# Altium footprint library WS-DISV.PcbLib: 32 footprints (part 2 of 2)
Each footprint in its own frame and in the unit in brackets; x right, y up, seen from the top. Pads: shape width x height; smd on the part's side, far side on the other; paste and mask are expansions set on the pad; w line width, h text height; cw(c..) or ccw(c..) is an arc to the next point about the centre after c.
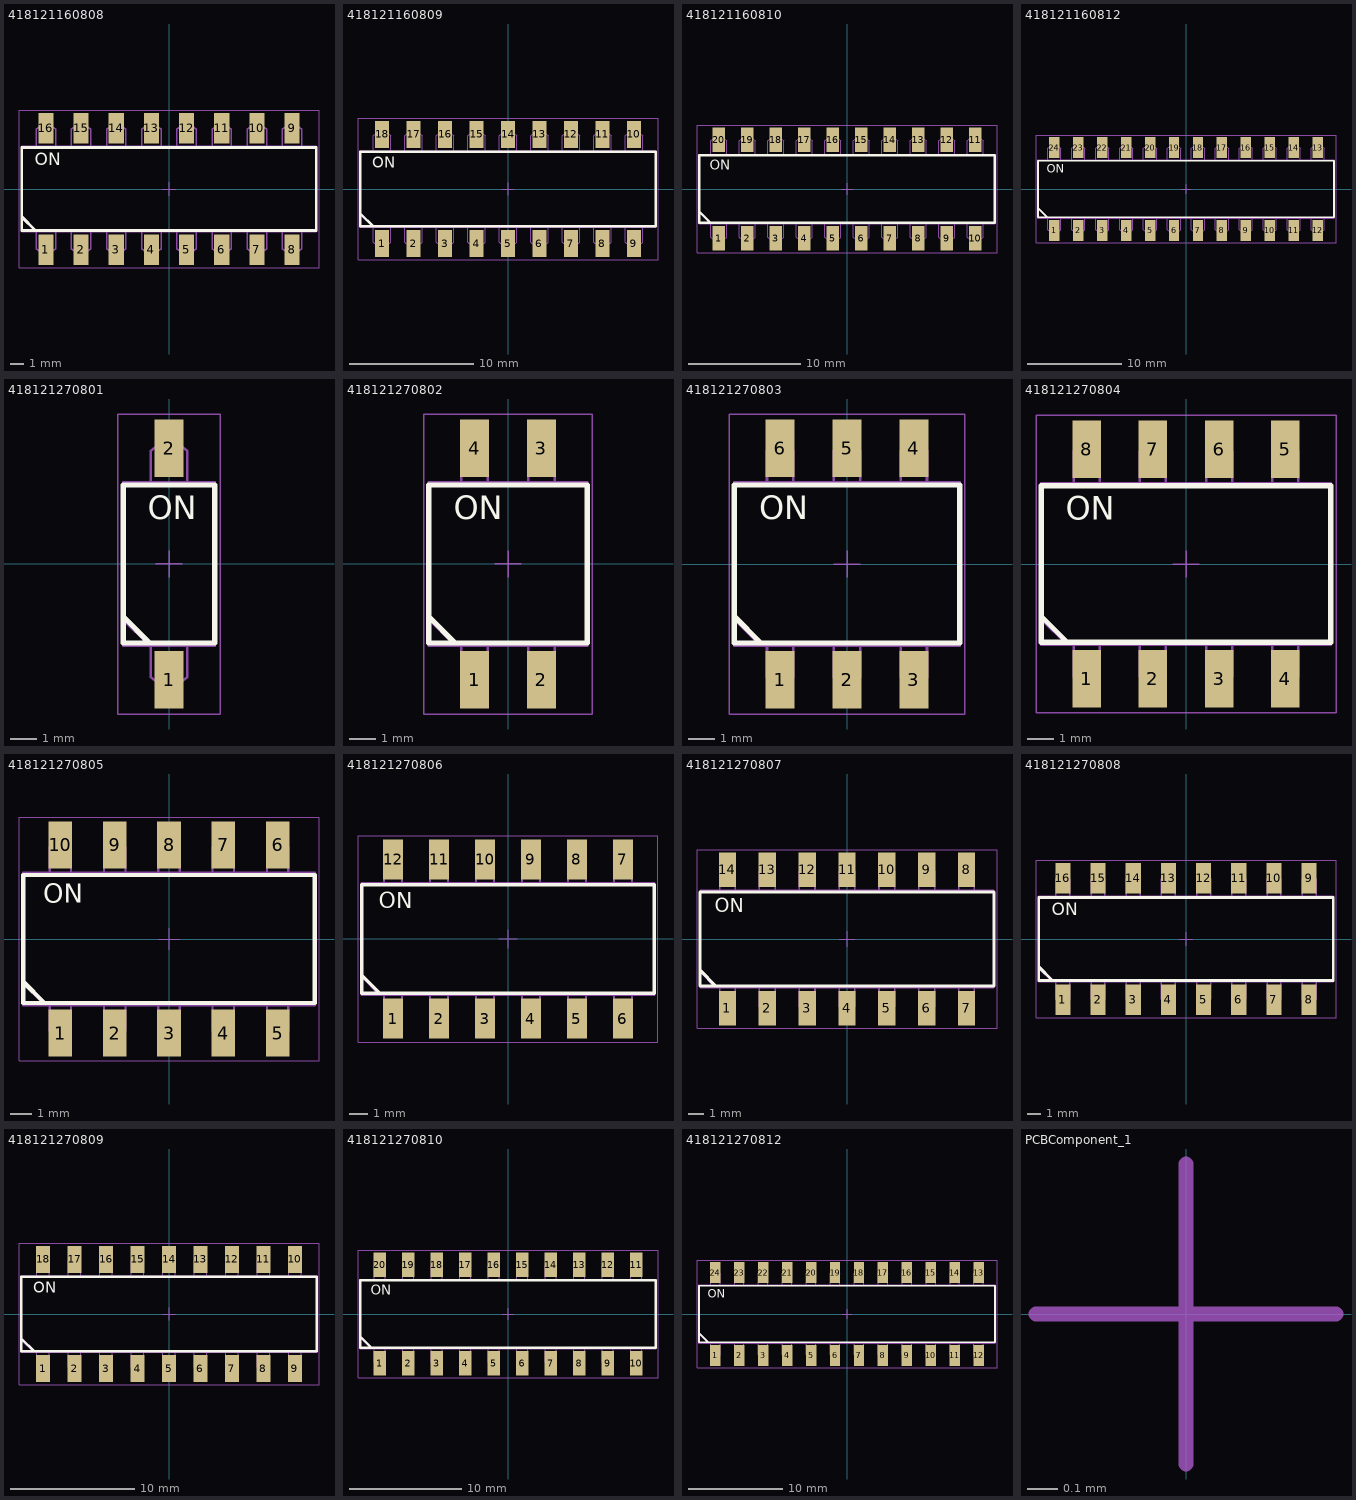
[diagram p1: the footprints below, top view; thin cyan lines are the x and y axes]

## 418121160808 [mm] "2.54 mm small compact SMD flat actuator with top tape, 08p"
height 3.2
pads (16):
  rect 1.1x2.2 smd: 1(-8.89,-4.4) 2(-6.35,-4.4) 3(-3.81,-4.4) 4(-1.27,-4.4) 5(1.27,-4.4) 6(3.81,-4.4) 7(6.35,-4.4) 8(8.89,-4.4) 9(8.89,4.4) 10(6.35,4.4) 11(3.81,4.4) 12(1.27,4.4) 13(-1.27,4.4) 14(-3.81,4.4) 15(-6.35,4.4) 16(-8.89,4.4)
Top Overlay:
  lines w0.2: -10.63,-2 -9.63,-3 ; -10.63,-3 10.63,-3 10.63,3 -10.63,3 -10.63,-3
  text "ON" at -9.69,1.7 h0.89
Top Component Outline:
  lines w0.1: -10.63,-2.06 -9.59,-3.1 -9.59,-4.3 -9.14,-4.65 -9.14,-5.2 -8.64,-5.2 -8.64,-4.65 -8.19,-4.3 -8.19,-3.1 ; -9.59,3.1 -9.59,4.3 -9.14,4.65 -9.14,5.2 -8.64,5.2 -8.64,4.65 -8.19,4.3 -8.19,3.1 ; -7.05,-3.1 -7.05,-4.3 -6.6,-4.65 -6.6,-5.2 -6.1,-5.2 -6.1,-4.65 -5.65,-4.3 -5.65,-3.1 ; -7.05,3.1 -7.05,4.3 -6.6,4.65 -6.6,5.2 -6.1,5.2 -6.1,4.65 -5.65,4.3 -5.65,3.1 ; -4.51,-3.1 -4.51,-4.3 -4.06,-4.65 -4.06,-5.2 -3.56,-5.2 -3.56,-4.65 -3.11,-4.3 -3.11,-3.1 ; -4.51,3.1 -4.51,4.3 -4.06,4.65 -4.06,5.2 -3.56,5.2 -3.56,4.65 -3.11,4.3 -3.11,3.1 ; -1.97,-3.1 -1.97,-4.3 -1.52,-4.65 -1.52,-5.2 -1.02,-5.2 -1.02,-4.65 -0.57,-4.3 -0.57,-3.1 ; -1.97,3.1 -1.97,4.3 -1.52,4.65 -1.52,5.2 -1.02,5.2 -1.02,4.65 -0.57,4.3 -0.57,3.1 ; 0.57,-3.1 0.57,-4.3 1.02,-4.65 1.02,-5.2 1.52,-5.2 1.52,-4.65 1.97,-4.3 1.97,-3.1 ; 0.57,3.1 0.57,4.3 1.02,4.65 1.02,5.2 1.52,5.2 1.52,4.65 1.97,4.3 1.97,3.1 ; 3.11,-3.1 3.11,-4.3 3.56,-4.65 3.56,-5.2 4.06,-5.2 4.06,-4.65 4.51,-4.3 4.51,-3.1 ; 3.11,3.1 3.11,4.3 3.56,4.65 3.56,5.2 4.06,5.2 4.06,4.65 4.51,4.3 4.51,3.1 ; 5.65,-3.1 5.65,-4.3 6.1,-4.65 6.1,-5.2 6.6,-5.2 6.6,-4.65 7.05,-4.3 7.05,-3.1 ; 5.65,3.1 5.65,4.3 6.1,4.65 6.1,5.2 6.6,5.2 6.6,4.65 7.05,4.3 7.05,3.1 ; 8.19,-3.1 8.19,-4.3 8.64,-4.65 8.64,-5.2 9.14,-5.2 9.14,-4.65 9.59,-4.3 9.59,-3.1 ; 8.19,3.1 8.19,4.3 8.64,4.65 8.64,5.2 9.14,5.2 9.14,4.65 9.59,4.3 9.59,3.1 ; -10.63,-3.1 -10.63,3.1 10.63,3.1 10.63,-3.1 -10.63,-3.1
  text "ON" at -9.69,1.7 h0.89
Top Courtyard:
  lines w0.05: -10.83,-5.7 -10.83,5.7 10.83,5.7 10.83,-5.7 -10.83,-5.7
Top Component Center:
  lines w0.05: -0.5,0 0.5,0 ; 0,-0.5 0,0.5
Top Designator (Mech19):
  text ".Designator" at -7.498,-0.5 h1.5
3D body "418121160808.stp": height 3.74, standoff 0, extent -10.63,-4.894 10.63,4.894

## 418121160809 [mm] "2.54 mm small compact SMD flat actuator with top tape, 09p"
height 3.2
pads (18):
  rect 1.1x2.2 smd: 1(-10.16,-4.4) 2(-7.62,-4.4) 3(-5.08,-4.4) 4(-2.54,-4.4) 5(0,-4.4) 6(2.54,-4.4) 7(5.08,-4.4) 8(7.62,-4.4) 9(10.16,-4.4) 10(10.16,4.4) 11(7.62,4.4) 12(5.08,4.4) 13(2.54,4.4) 14(0,4.4) 15(-2.54,4.4) 16(-5.08,4.4) 17(-7.62,4.4) 18(-10.16,4.4)
Top Overlay:
  lines w0.2: -11.9,-2 -10.9,-3 ; -11.9,-3 11.9,-3 11.9,3 -11.9,3 -11.9,-3
  text "ON" at -10.96,1.7 h0.89
Top Component Outline:
  lines w0.1: -11.9,-2.06 -10.86,-3.1 -10.86,-4.3 -10.41,-4.65 -10.41,-5.2 -9.91,-5.2 -9.91,-4.65 -9.46,-4.3 -9.46,-3.1 ; -10.86,3.1 -10.86,4.3 -10.41,4.65 -10.41,5.2 -9.91,5.2 -9.91,4.65 -9.46,4.3 -9.46,3.1 ; -8.32,-3.1 -8.32,-4.3 -7.87,-4.65 -7.87,-5.2 -7.37,-5.2 -7.37,-4.65 -6.92,-4.3 -6.92,-3.1 ; -8.32,3.1 -8.32,4.3 -7.87,4.65 -7.87,5.2 -7.37,5.2 -7.37,4.65 -6.92,4.3 -6.92,3.1 ; -5.78,-3.1 -5.78,-4.3 -5.33,-4.65 -5.33,-5.2 -4.83,-5.2 -4.83,-4.65 -4.38,-4.3 -4.38,-3.1 ; -5.78,3.1 -5.78,4.3 -5.33,4.65 -5.33,5.2 -4.83,5.2 -4.83,4.65 -4.38,4.3 -4.38,3.1 ; -3.24,-3.1 -3.24,-4.3 -2.79,-4.65 -2.79,-5.2 -2.29,-5.2 -2.29,-4.65 -1.84,-4.3 -1.84,-3.1 ; -3.24,3.1 -3.24,4.3 -2.79,4.65 -2.79,5.2 -2.29,5.2 -2.29,4.65 -1.84,4.3 -1.84,3.1 ; -0.7,-3.1 -0.7,-4.3 -0.25,-4.65 -0.25,-5.2 0.25,-5.2 0.25,-4.65 0.7,-4.3 0.7,-3.1 ; -0.7,3.1 -0.7,4.3 -0.25,4.65 -0.25,5.2 0.25,5.2 0.25,4.65 0.7,4.3 0.7,3.1 ; 1.84,-3.1 1.84,-4.3 2.29,-4.65 2.29,-5.2 2.79,-5.2 2.79,-4.65 3.24,-4.3 3.24,-3.1 ; 1.84,3.1 1.84,4.3 2.29,4.65 2.29,5.2 2.79,5.2 2.79,4.65 3.24,4.3 3.24,3.1 ; 4.38,-3.1 4.38,-4.3 4.83,-4.65 4.83,-5.2 5.33,-5.2 5.33,-4.65 5.78,-4.3 5.78,-3.1 ; 4.38,3.1 4.38,4.3 4.83,4.65 4.83,5.2 5.33,5.2 5.33,4.65 5.78,4.3 5.78,3.1 ; 6.92,-3.1 6.92,-4.3 7.37,-4.65 7.37,-5.2 7.87,-5.2 7.87,-4.65 8.32,-4.3 8.32,-3.1 ; 6.92,3.1 6.92,4.3 7.37,4.65 7.37,5.2 7.87,5.2 7.87,4.65 8.32,4.3 8.32,3.1 ; 9.46,-3.1 9.46,-4.3 9.91,-4.65 9.91,-5.2 10.41,-5.2 10.41,-4.65 10.86,-4.3 10.86,-3.1 ; 9.46,3.1 9.46,4.3 9.91,4.65 9.91,5.2 10.41,5.2 10.41,4.65 10.86,4.3 10.86,3.1 ; -11.9,-3.1 -11.9,3.1 11.9,3.1 11.9,-3.1 -11.9,-3.1
  text "ON" at -10.96,1.7 h0.89
Top Courtyard:
  lines w0.05: -12.1,-5.7 -12.1,5.7 12.1,5.7 12.1,-5.7 -12.1,-5.7
Top Component Center:
  lines w0.05: -0.5,0 0.5,0 ; 0,-0.5 0,0.5
Top Designator (Mech19):
  text ".Designator" at -7.498,-0.5 h1.5
3D body "418121160809.stp": height 3.74, standoff 0, extent -11.9,-4.894 11.9,4.894

## 418121160810 [mm] "2.54 mm small compact SMD flat actuator with top tape, 10p"
height 3.2
pads (20):
  rect 1.1x2.2 smd: 1(-11.43,-4.4) 2(-8.89,-4.4) 3(-6.35,-4.4) 4(-3.81,-4.4) 5(-1.27,-4.4) 6(1.27,-4.4) 7(3.81,-4.4) 8(6.35,-4.4) 9(8.89,-4.4) 10(11.43,-4.4) 11(11.43,4.4) 12(8.89,4.4) 13(6.35,4.4) 14(3.81,4.4) 15(1.27,4.4) 16(-1.27,4.4) 17(-3.81,4.4) 18(-6.35,4.4) 19(-8.89,4.4) 20(-11.43,4.4)
Top Overlay:
  lines w0.2: -13.17,-2 -12.17,-3 ; -13.17,-3 13.17,-3 13.17,3 -13.17,3 -13.17,-3
  text "ON" at -12.23,1.7 h0.89
Top Component Outline:
  lines w0.1: -13.17,-2.06 -12.13,-3.1 -12.13,-4.3 -11.68,-4.65 -11.68,-5.2 -11.18,-5.2 -11.18,-4.65 -10.73,-4.3 -10.73,-3.1 ; -12.13,3.1 -12.13,4.3 -11.68,4.65 -11.68,5.2 -11.18,5.2 -11.18,4.65 -10.73,4.3 -10.73,3.1 ; -9.59,-3.1 -9.59,-4.3 -9.14,-4.65 -9.14,-5.2 -8.64,-5.2 -8.64,-4.65 -8.19,-4.3 -8.19,-3.1 ; -9.59,3.1 -9.59,4.3 -9.14,4.65 -9.14,5.2 -8.64,5.2 -8.64,4.65 -8.19,4.3 -8.19,3.1 ; -7.05,-3.1 -7.05,-4.3 -6.6,-4.65 -6.6,-5.2 -6.1,-5.2 -6.1,-4.65 -5.65,-4.3 -5.65,-3.1 ; -7.05,3.1 -7.05,4.3 -6.6,4.65 -6.6,5.2 -6.1,5.2 -6.1,4.65 -5.65,4.3 -5.65,3.1 ; -4.51,-3.1 -4.51,-4.3 -4.06,-4.65 -4.06,-5.2 -3.56,-5.2 -3.56,-4.65 -3.11,-4.3 -3.11,-3.1 ; -4.51,3.1 -4.51,4.3 -4.06,4.65 -4.06,5.2 -3.56,5.2 -3.56,4.65 -3.11,4.3 -3.11,3.1 ; -1.97,-3.1 -1.97,-4.3 -1.52,-4.65 -1.52,-5.2 -1.02,-5.2 -1.02,-4.65 -0.57,-4.3 -0.57,-3.1 ; -1.97,3.1 -1.97,4.3 -1.52,4.65 -1.52,5.2 -1.02,5.2 -1.02,4.65 -0.57,4.3 -0.57,3.1 ; 0.57,-3.1 0.57,-4.3 1.02,-4.65 1.02,-5.2 1.52,-5.2 1.52,-4.65 1.97,-4.3 1.97,-3.1 ; 0.57,3.1 0.57,4.3 1.02,4.65 1.02,5.2 1.52,5.2 1.52,4.65 1.97,4.3 1.97,3.1 ; 3.11,-3.1 3.11,-4.3 3.56,-4.65 3.56,-5.2 4.06,-5.2 4.06,-4.65 4.51,-4.3 4.51,-3.1 ; 3.11,3.1 3.11,4.3 3.56,4.65 3.56,5.2 4.06,5.2 4.06,4.65 4.51,4.3 4.51,3.1 ; 5.65,-3.1 5.65,-4.3 6.1,-4.65 6.1,-5.2 6.6,-5.2 6.6,-4.65 7.05,-4.3 7.05,-3.1 ; 5.65,3.1 5.65,4.3 6.1,4.65 6.1,5.2 6.6,5.2 6.6,4.65 7.05,4.3 7.05,3.1 ; 8.19,-3.1 8.19,-4.3 8.64,-4.65 8.64,-5.2 9.14,-5.2 9.14,-4.65 9.59,-4.3 9.59,-3.1 ; 8.19,3.1 8.19,4.3 8.64,4.65 8.64,5.2 9.14,5.2 9.14,4.65 9.59,4.3 9.59,3.1 ; 10.73,-3.1 10.73,-4.3 11.18,-4.65 11.18,-5.2 11.68,-5.2 11.68,-4.65 12.13,-4.3 12.13,-3.1 ; 10.73,3.1 10.73,4.3 11.18,4.65 11.18,5.2 11.68,5.2 11.68,4.65 12.13,4.3 12.13,3.1 ; -13.17,-3.1 -13.17,3.1 13.17,3.1 13.17,-3.1 -13.17,-3.1
  text "ON" at -12.23,1.7 h0.89
Top Courtyard:
  lines w0.05: -13.37,-5.7 -13.37,5.7 13.37,5.7 13.37,-5.7 -13.37,-5.7
Top Component Center:
  lines w0.05: -0.5,0 0.5,0 ; 0,-0.5 0,0.5
Top Designator (Mech19):
  text ".Designator" at -7.498,-0.5 h1.5
3D body "418121160810.stp": height 3.74, standoff 0, extent -13.17,-4.894 13.17,4.894

## 418121160812 [mm] "2.54 mm small compact SMD flat actuator with top tape, 12p"
height 3.2
pads (24):
  rect 1.1x2.2 smd: 1(-13.97,-4.4) 2(-11.43,-4.4) 3(-8.89,-4.4) 4(-6.35,-4.4) 5(-3.81,-4.4) 6(-1.27,-4.4) 7(1.27,-4.4) 8(3.81,-4.4) 9(6.35,-4.4) 10(8.89,-4.4) 11(11.43,-4.4) 12(13.97,-4.4) 13(13.97,4.4) 14(11.43,4.4) 15(8.89,4.4) 16(6.35,4.4) 17(3.81,4.4) 18(1.27,4.4) 19(-1.27,4.4) 20(-3.81,4.4) 21(-6.35,4.4) 22(-8.89,4.4) 23(-11.43,4.4) 24(-13.97,4.4)
Top Overlay:
  lines w0.2: -15.71,-2 -14.71,-3 ; -15.71,-3 -15.71,3 15.71,3 15.71,-3 -15.71,-3
  text "ON" at -14.77,1.7 h0.89
Top Component Outline:
  drawing of 173 lines, arcs and shapes, not listed
  text "ON" at -14.77,1.7 h0.89
Top Courtyard:
  lines w0.05: -15.91,-5.7 15.91,-5.7 15.91,5.7 -15.91,5.7 -15.91,-5.7
Top Component Center:
  lines w0.05: -0.5,0 0.5,0 ; 0,-0.5 0,0.5
Top Designator (Mech19):
  text ".Designator" at -7.498,-0.5 h1.5
3D body "418121160812.stp": height 3.74, standoff 0, extent -15.71,-4.894 15.71,4.894

## 418121270801 [mm] "2.54 mm small compact SMD with raised actuator, 01p"
height 3.62
pads (2):
  rect 1.1x2.2 smd: 1(0,-4.4) 2(0,4.4)
Top Overlay:
  lines w0.2: -1.74,-2 -0.74,-3 ; -1.74,-3 1.74,-3 1.74,3 -1.74,3 -1.74,-3
  text "ON" at -0.8,1.7 h0.89
Top Component Outline:
  lines w0.1: -1.74,-2.1 -0.74,-3.1 ; -0.7,-3.1 -0.7,-4.3 -0.25,-4.65 -0.25,-5.2 0.25,-5.2 0.25,-4.65 0.7,-4.3 0.7,-3.1 ; -0.7,3.1 -0.7,4.3 -0.25,4.65 -0.25,5.2 0.25,5.2 0.25,4.65 0.7,4.3 0.7,3.1 ; -1.74,-3.1 -1.74,3.1 1.74,3.1 1.74,-3.1 -1.74,-3.1
  text "ON" at -0.8,1.7 h0.89
Top Courtyard:
  lines w0.05: -1.94,-5.7 -1.94,5.7 1.94,5.7 1.94,-5.7 -1.94,-5.7
Top Component Center:
  lines w0.05: -0.5,0 0.5,0 ; 0,-0.5 0,0.5
Top Designator (Mech19):
  text ".Designator" at -7.498,-0.5 h1.5
3D body "418121270801.stp": height 3.77, standoff 0, extent -1.74,-5.2 1.74,5.2

## 418121270802 [mm] "2.54 mm small compact SMD with raised actuator, 02p"
height 4.1
pads (4):
  rect 1.1x2.2 smd: 1(-1.27,-4.4) 2(1.27,-4.4) 3(1.27,4.4) 4(-1.27,4.4)
Top Overlay:
  lines w0.2: -3.01,-2 -2.01,-3 ; -3.01,-3 -3.01,3 3.01,3 3.01,-3 -3.01,-3
  text "ON" at -2.07,1.7 h0.89
Top Component Outline:
  lines w0.1: -3.01,-2.1 -2.01,-3.1 ; -1.77,-3.1 -1.77,-4.3 -1.52,-4.495 -1.52,-4.9 -1.02,-4.9 -1.02,-4.495 -0.77,-4.3 -0.77,-3.1 ; -1.77,3.1 -1.77,4.3 -1.52,4.495 -1.52,4.9 -1.02,4.9 -1.02,4.495 -0.77,4.3 -0.77,3.1 ; 0.77,-3.1 0.77,-4.3 1.02,-4.495 1.02,-4.9 1.52,-4.9 1.52,-4.495 1.77,-4.3 1.77,-3.1 ; 0.77,3.1 0.77,4.3 1.02,4.495 1.02,4.9 1.52,4.9 1.52,4.495 1.77,4.3 1.77,3.1 ; -3.01,-3.1 3.01,-3.1 3.01,3.1 -3.01,3.1 -3.01,-3.1
  text "ON" at -2.07,1.7 h0.89
Top Courtyard:
  lines w0.05: -3.21,-5.7 3.21,-5.7 3.21,5.7 -3.21,5.7 -3.21,-5.7
Top Component Center:
  lines w0.05: -0.5,0 0.5,0 ; 0,-0.5 0,0.5
Top Designator (Mech19):
  text ".Designator" at -7.498,-0.5 h1.5
3D body "418121270802.stp": height 4.41, standoff 0.01, extent -2.76,-4.85 2.76,4.85

## 418121270803 [mm] "2.54 mm small compact SMD with raised actuator, 03p"
height 4.1
pads (6):
  rect 1.1x2.2 smd: 1(-2.54,-4.4) 2(0,-4.4) 3(2.54,-4.4) 4(2.54,4.4) 5(0,4.4) 6(-2.54,4.4)
Top Overlay:
  lines w0.2: -4.28,-2 -3.28,-3 ; -4.28,-3 4.28,-3 4.28,3 -4.28,3 -4.28,-3
  text "ON" at -3.34,1.7 h0.89
Top Component Outline:
  lines w0.1: -4.28,-2.1 -3.28,-3.1 ; -3.04,-3.1 -3.04,-4.3 -2.79,-4.495 -2.79,-4.9 -2.29,-4.9 -2.29,-4.495 -2.04,-4.3 -2.04,-3.1 ; -3.04,3.1 -3.04,4.3 -2.79,4.495 -2.79,4.9 -2.29,4.9 -2.29,4.495 -2.04,4.3 -2.04,3.1 ; -0.5,-3.1 -0.5,-4.3 -0.25,-4.495 -0.25,-4.9 0.25,-4.9 0.25,-4.495 0.5,-4.3 0.5,-3.1 ; -0.5,3.1 -0.5,4.3 -0.25,4.495 -0.25,4.9 0.25,4.9 0.25,4.495 0.5,4.3 0.5,3.1 ; 2.04,-3.1 2.04,-4.3 2.29,-4.495 2.29,-4.9 2.79,-4.9 2.79,-4.495 3.04,-4.3 3.04,-3.1 ; 2.04,3.1 2.04,4.3 2.29,4.495 2.29,4.9 2.79,4.9 2.79,4.495 3.04,4.3 3.04,3.1 ; -4.28,-3.1 -4.28,3.1 4.28,3.1 4.28,-3.1 -4.28,-3.1
  text "ON" at -3.34,1.7 h0.89
Top Courtyard:
  lines w0.05: -4.48,-5.7 -4.48,5.7 4.48,5.7 4.48,-5.7 -4.48,-5.7
Top Component Center:
  lines w0.05: -0.5,0 0.5,0 ; 0,-0.5 0,0.5
Top Designator (Mech19):
  text ".Designator" at -7.498,-0.5 h1.5
3D body "418121270803.stp": height 4.41, standoff 0.01, extent -4.03,-4.85 4.03,4.85

## 418121270804 [mm] "2.54 mm small compact SMD with raised actuator, 04p"
height 4.1
pads (8):
  rect 1.1x2.2 smd: 1(-3.81,-4.4) 2(-1.27,-4.4) 3(1.27,-4.4) 4(3.81,-4.4) 5(3.81,4.4) 6(1.27,4.4) 7(-1.27,4.4) 8(-3.81,4.4)
Top Overlay:
  lines w0.2: -5.55,-2 -4.55,-3 ; -5.55,-3 5.55,-3 5.55,3 -5.55,3 -5.55,-3
  text "ON" at -4.61,1.7 h0.89
Top Component Outline:
  lines w0.1: -5.55,-2.1 -4.55,-3.1 ; -4.31,-3.1 -4.31,-4.3 -4.06,-4.495 -4.06,-4.9 -3.56,-4.9 -3.56,-4.495 -3.31,-4.3 -3.31,-3.1 ; -4.31,3.1 -4.31,4.3 -4.06,4.495 -4.06,4.9 -3.56,4.9 -3.56,4.495 -3.31,4.3 -3.31,3.1 ; -1.77,-3.1 -1.77,-4.3 -1.52,-4.495 -1.52,-4.9 -1.02,-4.9 -1.02,-4.495 -0.77,-4.3 -0.77,-3.1 ; -1.77,3.1 -1.77,4.3 -1.52,4.495 -1.52,4.9 -1.02,4.9 -1.02,4.495 -0.77,4.3 -0.77,3.1 ; 0.77,-3.1 0.77,-4.3 1.02,-4.495 1.02,-4.9 1.52,-4.9 1.52,-4.495 1.77,-4.3 1.77,-3.1 ; 0.77,3.1 0.77,4.3 1.02,4.495 1.02,4.9 1.52,4.9 1.52,4.495 1.77,4.3 1.77,3.1 ; 3.31,-3.1 3.31,-4.3 3.56,-4.495 3.56,-4.9 4.06,-4.9 4.06,-4.495 4.31,-4.3 4.31,-3.1 ; 3.31,3.1 3.31,4.3 3.56,4.495 3.56,4.9 4.06,4.9 4.06,4.495 4.31,4.3 4.31,3.1 ; -5.55,-3.1 5.55,-3.1 5.55,3.1 -5.55,3.1 -5.55,-3.1
  text "ON" at -4.61,1.7 h0.89
Top Courtyard:
  lines w0.05: -5.75,-5.7 -5.75,5.7 5.75,5.7 5.75,-5.7 -5.75,-5.7
Top Component Center:
  lines w0.05: -0.5,0 0.5,0 ; 0,-0.5 0,0.5
Top Designator (Mech19):
  text ".Designator" at -7.498,-0.5 h1.5
3D body "418121270804.stp": height 4.41, standoff 0.01, extent -5.3,-4.85 5.3,4.85

## 418121270805 [mm] "2.54 mm small compact SMD with raised actuator, 05p"
height 4.1
pads (10):
  rect 1.1x2.2 smd: 1(-5.08,-4.4) 2(-2.54,-4.4) 3(0,-4.4) 4(2.54,-4.4) 5(5.08,-4.4) 6(5.08,4.4) 7(2.54,4.4) 8(0,4.4) 9(-2.54,4.4) 10(-5.08,4.4)
Top Overlay:
  lines w0.2: -6.82,-2 -5.82,-3 ; -6.82,-3 -6.82,3 6.82,3 6.82,-3 -6.82,-3
  text "ON" at -5.88,1.7 h0.89
Top Component Outline:
  lines w0.1: -6.82,-2.1 -5.82,-3.1 ; -5.58,-3.1 -5.58,-4.3 -5.33,-4.495 -5.33,-4.9 -4.83,-4.9 -4.83,-4.495 -4.58,-4.3 -4.58,-3.1 ; -5.58,3.1 -5.58,4.3 -5.33,4.495 -5.33,4.9 -4.83,4.9 -4.83,4.495 -4.58,4.3 -4.58,3.1 ; -3.04,-3.1 -3.04,-4.3 -2.79,-4.495 -2.79,-4.9 -2.29,-4.9 -2.29,-4.495 -2.04,-4.3 -2.04,-3.1 ; -3.04,3.1 -3.04,4.3 -2.79,4.495 -2.79,4.9 -2.29,4.9 -2.29,4.495 -2.04,4.3 -2.04,3.1 ; -0.5,-3.1 -0.5,-4.3 -0.25,-4.495 -0.25,-4.9 0.25,-4.9 0.25,-4.495 0.5,-4.3 0.5,-3.1 ; -0.5,3.1 -0.5,4.3 -0.25,4.495 -0.25,4.9 0.25,4.9 0.25,4.495 0.5,4.3 0.5,3.1 ; 2.04,-3.1 2.04,-4.3 2.29,-4.495 2.29,-4.9 2.79,-4.9 2.79,-4.495 3.04,-4.3 3.04,-3.1 ; 2.04,3.1 2.04,4.3 2.29,4.495 2.29,4.9 2.79,4.9 2.79,4.495 3.04,4.3 3.04,3.1 ; 4.58,-3.1 4.58,-4.3 4.83,-4.495 4.83,-4.9 5.33,-4.9 5.33,-4.495 5.58,-4.3 5.58,-3.1 ; 4.58,3.1 4.58,4.3 4.83,4.495 4.83,4.9 5.33,4.9 5.33,4.495 5.58,4.3 5.58,3.1 ; -6.82,-3.1 6.82,-3.1 6.82,3.1 -6.82,3.1 -6.82,-3.1
  text "ON" at -5.88,1.7 h0.89
Top Courtyard:
  lines w0.05: -7.02,-5.7 7.02,-5.7 7.02,5.7 -7.02,5.7 -7.02,-5.7
Top Component Center:
  lines w0.05: -0.5,0 0.5,0 ; 0,-0.5 0,0.5
Top Designator (Mech19):
  text ".Designator" at -7.498,-0.5 h1.5
3D body "418121270805.stp": height 4.41, standoff 0.01, extent -6.57,-4.85 6.57,4.85

## 418121270806 [mm] "2.54 mm small compact SMD with raised actuator, 06p"
height 4.1
pads (12):
  rect 1.1x2.2 smd: 1(-6.35,-4.4) 2(-3.81,-4.4) 3(-1.27,-4.4) 4(1.27,-4.4) 5(3.81,-4.4) 6(6.35,-4.4) 7(6.35,4.4) 8(3.81,4.4) 9(1.27,4.4) 10(-1.27,4.4) 11(-3.81,4.4) 12(-6.35,4.4)
Top Overlay:
  lines w0.2: -8.09,-2 -7.09,-3 ; -8.09,-3 -8.09,3 8.09,3 8.09,-3 -8.09,-3
  text "ON" at -7.15,1.7 h0.89
Top Component Outline:
  lines w0.1: -8.09,-2.1 -7.09,-3.1 ; -6.85,-3.1 -6.85,-4.3 -6.6,-4.495 -6.6,-4.9 -6.1,-4.9 -6.1,-4.495 -5.85,-4.3 -5.85,-3.1 ; -6.85,3.1 -6.85,4.3 -6.6,4.494 -6.6,4.9 -6.1,4.9 -6.1,4.494 -5.85,4.3 -5.85,3.1 ; -4.31,-3.1 -4.31,-4.3 -4.06,-4.495 -4.06,-4.9 -3.56,-4.9 -3.56,-4.495 -3.31,-4.3 -3.31,-3.1 ; -4.31,3.1 -4.31,4.3 -4.06,4.494 -4.06,4.9 -3.56,4.9 -3.56,4.494 -3.31,4.3 -3.31,3.1 ; -1.77,-3.1 -1.77,-4.3 -1.52,-4.495 -1.52,-4.9 -1.02,-4.9 -1.02,-4.495 -0.77,-4.3 -0.77,-3.1 ; -1.77,3.1 -1.77,4.3 -1.52,4.494 -1.52,4.9 -1.02,4.9 -1.02,4.494 -0.77,4.3 -0.77,3.1 ; 0.77,-3.1 0.77,-4.3 1.02,-4.495 1.02,-4.9 1.52,-4.9 1.52,-4.495 1.77,-4.3 1.77,-3.1 ; 0.77,3.1 0.77,4.3 1.02,4.494 1.02,4.9 1.52,4.9 1.52,4.494 1.77,4.3 1.77,3.1 ; 3.31,-3.1 3.31,-4.3 3.56,-4.495 3.56,-4.9 4.06,-4.9 4.06,-4.495 4.31,-4.3 4.31,-3.1 ; 3.31,3.1 3.31,4.3 3.56,4.494 3.56,4.9 4.06,4.9 4.06,4.494 4.31,4.3 4.31,3.1 ; 5.85,-3.1 5.85,-4.3 6.1,-4.495 6.1,-4.9 6.6,-4.9 6.6,-4.495 6.85,-4.3 6.85,-3.1 ; 5.85,3.1 5.85,4.3 6.1,4.494 6.1,4.9 6.6,4.9 6.6,4.494 6.85,4.3 6.85,3.1 ; -8.09,-3.1 8.09,-3.1 8.09,3.1 -8.09,3.1 -8.09,-3.1
  text "ON" at -7.15,1.7 h0.89
Top Courtyard:
  lines w0.05: -8.29,-5.7 8.29,-5.7 8.29,5.7 -8.29,5.7 -8.29,-5.7
Top Component Center:
  lines w0.05: -0.5,0 0.5,0 ; 0,-0.5 0,0.5
Top Designator (Mech19):
  text ".Designator" at -7.498,-0.5 h1.5
3D body "418121270806.stp": height 4.41, standoff 0.01, extent -7.84,-4.85 7.84,4.85

## 418121270807 [mm] "2.54 mm small compact SMD with raised actuator, 07p"
height 4.1
pads (14):
  rect 1.1x2.2 smd: 1(-7.62,-4.4) 2(-5.08,-4.4) 3(-2.54,-4.4) 4(0,-4.4) 5(2.54,-4.4) 6(5.08,-4.4) 7(7.62,-4.4) 8(7.62,4.4) 9(5.08,4.4) 10(2.54,4.4) 11(0,4.4) 12(-2.54,4.4) 13(-5.08,4.4) 14(-7.62,4.4)
Top Overlay:
  lines w0.2: -9.36,-2 -8.36,-3 ; -9.36,-3 -9.36,3 9.36,3 9.36,-3 -9.36,-3
  text "ON" at -8.42,1.7 h0.89
Top Component Outline:
  lines w0.1: -9.36,-2.1 -8.36,-3.1 ; -8.12,-3.1 -8.12,-4.3 -7.87,-4.495 -7.87,-4.9 -7.37,-4.9 -7.37,-4.495 -7.12,-4.3 -7.12,-3.1 ; -8.12,3.1 -8.12,4.3 -7.87,4.495 -7.87,4.9 -7.37,4.9 -7.37,4.495 -7.12,4.3 -7.12,3.1 ; -5.58,-3.1 -5.58,-4.3 -5.33,-4.495 -5.33,-4.9 -4.83,-4.9 -4.83,-4.495 -4.58,-4.3 -4.58,-3.1 ; -5.58,3.1 -5.58,4.3 -5.33,4.495 -5.33,4.9 -4.83,4.9 -4.83,4.495 -4.58,4.3 -4.58,3.1 ; -3.04,-3.1 -3.04,-4.3 -2.79,-4.495 -2.79,-4.9 -2.29,-4.9 -2.29,-4.495 -2.04,-4.3 -2.04,-3.1 ; -3.04,3.1 -3.04,4.3 -2.79,4.495 -2.79,4.9 -2.29,4.9 -2.29,4.495 -2.04,4.3 -2.04,3.1 ; -0.5,-3.1 -0.5,-4.3 -0.25,-4.495 -0.25,-4.9 0.25,-4.9 0.25,-4.495 0.5,-4.3 0.5,-3.1 ; -0.5,3.1 -0.5,4.3 -0.25,4.495 -0.25,4.9 0.25,4.9 0.25,4.495 0.5,4.3 0.5,3.1 ; 2.04,-3.1 2.04,-4.3 2.29,-4.495 2.29,-4.9 2.79,-4.9 2.79,-4.495 3.04,-4.3 3.04,-3.1 ; 2.04,3.1 2.04,4.3 2.29,4.495 2.29,4.9 2.79,4.9 2.79,4.495 3.04,4.3 3.04,3.1 ; 4.58,-3.1 4.58,-4.3 4.83,-4.495 4.83,-4.9 5.33,-4.9 5.33,-4.495 5.58,-4.3 5.58,-3.1 ; 4.58,3.1 4.58,4.3 4.83,4.495 4.83,4.9 5.33,4.9 5.33,4.495 5.58,4.3 5.58,3.1 ; 7.12,-3.1 7.12,-4.3 7.37,-4.495 7.37,-4.9 7.87,-4.9 7.87,-4.495 8.12,-4.3 8.12,-3.1 ; 7.12,3.1 7.12,4.3 7.37,4.495 7.37,4.9 7.87,4.9 7.87,4.495 8.12,4.3 8.12,3.1 ; -9.36,-3.1 9.36,-3.1 9.36,3.1 -9.36,3.1 -9.36,-3.1
  text "ON" at -8.42,1.7 h0.89
Top Courtyard:
  lines w0.05: -9.56,-5.7 9.56,-5.7 9.56,5.7 -9.56,5.7 -9.56,-5.7
Top Component Center:
  lines w0.05: -0.5,0 0.5,0 ; 0,-0.5 0,0.5
Top Designator (Mech19):
  text ".Designator" at -7.498,-0.5 h1.5
3D body "418121270807.stp": height 4.41, standoff 0.01, extent -9.11,-4.85 9.11,4.85

## 418121270808 [mm] "2.54 mm small compact SMD with raised actuator, 08p"
height 4.1
pads (16):
  rect 1.1x2.2 smd: 1(-8.89,-4.4) 2(-6.35,-4.4) 3(-3.81,-4.4) 4(-1.27,-4.4) 5(1.27,-4.4) 6(3.81,-4.4) 7(6.35,-4.4) 8(8.89,-4.4) 9(8.89,4.4) 10(6.35,4.4) 11(3.81,4.4) 12(1.27,4.4) 13(-1.27,4.4) 14(-3.81,4.4) 15(-6.35,4.4) 16(-8.89,4.4)
Top Overlay:
  lines w0.2: -10.63,-2 -9.63,-3 ; -10.63,-3 10.63,-3 10.63,3 -10.63,3 -10.63,-3
  text "ON" at -9.69,1.7 h0.89
Top Component Outline:
  lines w0.1: -10.63,-2.1 -9.63,-3.1 ; -9.39,-3.1 -9.39,-4.3 -9.14,-4.495 -9.14,-4.9 -8.64,-4.9 -8.64,-4.495 -8.39,-4.3 -8.39,-3.1 ; -9.39,3.1 -9.39,4.3 -9.14,4.495 -9.14,4.9 -8.64,4.9 -8.64,4.495 -8.39,4.3 -8.39,3.1 ; -6.85,-3.1 -6.85,-4.3 -6.6,-4.495 -6.6,-4.9 -6.1,-4.9 -6.1,-4.495 -5.85,-4.3 -5.85,-3.1 ; -6.85,3.1 -6.85,4.3 -6.6,4.495 -6.6,4.9 -6.1,4.9 -6.1,4.495 -5.85,4.3 -5.85,3.1 ; -4.31,-3.1 -4.31,-4.3 -4.06,-4.495 -4.06,-4.9 -3.56,-4.9 -3.56,-4.495 -3.31,-4.3 -3.31,-3.1 ; -4.31,3.1 -4.31,4.3 -4.06,4.495 -4.06,4.9 -3.56,4.9 -3.56,4.495 -3.31,4.3 -3.31,3.1 ; -1.77,-3.1 -1.77,-4.3 -1.52,-4.495 -1.52,-4.9 -1.02,-4.9 -1.02,-4.495 -0.77,-4.3 -0.77,-3.1 ; -1.77,3.1 -1.77,4.3 -1.52,4.495 -1.52,4.9 -1.02,4.9 -1.02,4.495 -0.77,4.3 -0.77,3.1 ; 0.77,-3.1 0.77,-4.3 1.02,-4.495 1.02,-4.9 1.52,-4.9 1.52,-4.495 1.77,-4.3 1.77,-3.1 ; 0.77,3.1 0.77,4.3 1.02,4.495 1.02,4.9 1.52,4.9 1.52,4.495 1.77,4.3 1.77,3.1 ; 3.31,-3.1 3.31,-4.3 3.56,-4.495 3.56,-4.9 4.06,-4.9 4.06,-4.495 4.31,-4.3 4.31,-3.1 ; 3.31,3.1 3.31,4.3 3.56,4.495 3.56,4.9 4.06,4.9 4.06,4.495 4.31,4.3 4.31,3.1 ; 5.85,-3.1 5.85,-4.3 6.1,-4.495 6.1,-4.9 6.6,-4.9 6.6,-4.495 6.85,-4.3 6.85,-3.1 ; 5.85,3.1 5.85,4.3 6.1,4.495 6.1,4.9 6.6,4.9 6.6,4.495 6.85,4.3 6.85,3.1 ; 8.39,-3.1 8.39,-4.3 8.64,-4.495 8.64,-4.9 9.14,-4.9 9.14,-4.495 9.39,-4.3 9.39,-3.1 ; 8.39,3.1 8.39,4.3 8.64,4.495 8.64,4.9 9.14,4.9 9.14,4.495 9.39,4.3 9.39,3.1 ; -10.63,-3.1 -10.63,3.1 10.63,3.1 10.63,-3.1 -10.63,-3.1
  text "ON" at -9.69,1.7 h0.89
Top Courtyard:
  lines w0.05: -10.83,-5.7 -10.83,5.7 10.83,5.7 10.83,-5.7 -10.83,-5.7
Top Component Center:
  lines w0.05: -0.5,0 0.5,0 ; 0,-0.5 0,0.5
Top Designator (Mech19):
  text ".Designator" at -7.498,-0.5 h1.5
3D body "418121270808.stp": height 4.41, standoff 0.01, extent -10.38,-4.85 10.38,4.85

## 418121270809 [mm] "2.54 mm small compact SMD with raised actuator, 09p"
height 4.1
pads (18):
  rect 1.1x2.2 smd: 1(-10.16,-4.4) 2(-7.62,-4.4) 3(-5.08,-4.4) 4(-2.54,-4.4) 5(0,-4.4) 6(2.54,-4.4) 7(5.08,-4.4) 8(7.62,-4.4) 9(10.16,-4.4) 10(10.16,4.4) 11(7.62,4.4) 12(5.08,4.4) 13(2.54,4.4) 14(0,4.4) 15(-2.54,4.4) 16(-5.08,4.4) 17(-7.62,4.4) 18(-10.16,4.4)
Top Overlay:
  lines w0.2: -11.9,-2 -10.9,-3 ; -11.9,-3 11.9,-3 11.9,3 -11.9,3 -11.9,-3
  text "ON" at -10.96,1.7 h0.89
Top Component Outline:
  lines w0.1: -11.9,-2.1 -10.9,-3.1 ; -10.66,-3.1 -10.66,-4.3 -10.41,-4.495 -10.41,-4.9 -9.91,-4.9 -9.91,-4.495 -9.66,-4.3 -9.66,-3.1 ; -10.66,3.1 -10.66,4.3 -10.41,4.495 -10.41,4.9 -9.91,4.9 -9.91,4.495 -9.66,4.3 -9.66,3.1 ; -8.12,-3.1 -8.12,-4.3 -7.87,-4.495 -7.87,-4.9 -7.37,-4.9 -7.37,-4.495 -7.12,-4.3 -7.12,-3.1 ; -8.12,3.1 -8.12,4.3 -7.87,4.495 -7.87,4.9 -7.37,4.9 -7.37,4.495 -7.12,4.3 -7.12,3.1 ; -5.58,-3.1 -5.58,-4.3 -5.33,-4.495 -5.33,-4.9 -4.83,-4.9 -4.83,-4.495 -4.58,-4.3 -4.58,-3.1 ; -5.58,3.1 -5.58,4.3 -5.33,4.495 -5.33,4.9 -4.83,4.9 -4.83,4.495 -4.58,4.3 -4.58,3.1 ; -3.04,-3.1 -3.04,-4.3 -2.79,-4.495 -2.79,-4.9 -2.29,-4.9 -2.29,-4.495 -2.04,-4.3 -2.04,-3.1 ; -3.04,3.1 -3.04,4.3 -2.79,4.495 -2.79,4.9 -2.29,4.9 -2.29,4.495 -2.04,4.3 -2.04,3.1 ; -0.5,-3.1 -0.5,-4.3 -0.25,-4.495 -0.25,-4.9 0.25,-4.9 0.25,-4.495 0.5,-4.3 0.5,-3.1 ; -0.5,3.1 -0.5,4.3 -0.25,4.495 -0.25,4.9 0.25,4.9 0.25,4.495 0.5,4.3 0.5,3.1 ; 2.04,-3.1 2.04,-4.3 2.29,-4.495 2.29,-4.9 2.79,-4.9 2.79,-4.495 3.04,-4.3 3.04,-3.1 ; 2.04,3.1 2.04,4.3 2.29,4.495 2.29,4.9 2.79,4.9 2.79,4.495 3.04,4.3 3.04,3.1 ; 4.58,-3.1 4.58,-4.3 4.83,-4.495 4.83,-4.9 5.33,-4.9 5.33,-4.495 5.58,-4.3 5.58,-3.1 ; 4.58,3.1 4.58,4.3 4.83,4.495 4.83,4.9 5.33,4.9 5.33,4.495 5.58,4.3 5.58,3.1 ; 7.12,-3.1 7.12,-4.3 7.37,-4.495 7.37,-4.9 7.87,-4.9 7.87,-4.495 8.12,-4.3 8.12,-3.1 ; 7.12,3.1 7.12,4.3 7.37,4.495 7.37,4.9 7.87,4.9 7.87,4.495 8.12,4.3 8.12,3.1 ; 9.66,-3.1 9.66,-4.3 9.91,-4.495 9.91,-4.9 10.41,-4.9 10.41,-4.495 10.66,-4.3 10.66,-3.1 ; 9.66,3.1 9.66,4.3 9.91,4.495 9.91,4.9 10.41,4.9 10.41,4.495 10.66,4.3 10.66,3.1 ; -11.9,-3.1 -11.9,3.1 11.9,3.1 11.9,-3.1 -11.9,-3.1
  text "ON" at -10.96,1.7 h0.89
Top Courtyard:
  lines w0.05: -12.1,-5.7 -12.1,5.7 12.1,5.7 12.1,-5.7 -12.1,-5.7
Top Component Center:
  lines w0.05: -0.5,0 0.5,0 ; 0,-0.5 0,0.5
Top Designator (Mech19):
  text ".Designator" at -7.498,-0.5 h1.5
3D body "418121270809.stp": height 4.41, standoff 0.01, extent -11.65,-4.85 11.65,4.85

## 418121270810 [mm] "2.54 mm small compact SMD with raised actuator, 10p"
height 4.1
pads (20):
  rect 1.1x2.2 smd: 1(-11.43,-4.4) 2(-8.89,-4.4) 3(-6.35,-4.4) 4(-3.81,-4.4) 5(-1.27,-4.4) 6(1.27,-4.4) 7(3.81,-4.4) 8(6.35,-4.4) 9(8.89,-4.4) 10(11.43,-4.4) 11(11.43,4.4) 12(8.89,4.4) 13(6.35,4.4) 14(3.81,4.4) 15(1.27,4.4) 16(-1.27,4.4) 17(-3.81,4.4) 18(-6.35,4.4) 19(-8.89,4.4) 20(-11.43,4.4)
Top Overlay:
  lines w0.2: -13.17,-2 -12.17,-3 ; -13.17,-3 -13.17,3 13.17,3 13.17,-3 -13.17,-3
  text "ON" at -12.23,1.7 h0.89
Top Component Outline:
  lines w0.1: -13.17,-2.1 -12.17,-3.1 ; -11.93,-3.1 -11.93,-4.3 -11.68,-4.495 -11.68,-4.9 -11.18,-4.9 -11.18,-4.495 -10.93,-4.3 -10.93,-3.1 ; -11.93,3.1 -11.93,4.3 -11.68,4.495 -11.68,4.9 -11.18,4.9 -11.18,4.495 -10.93,4.3 -10.93,3.1 ; -9.39,-3.1 -9.39,-4.3 -9.14,-4.495 -9.14,-4.9 -8.64,-4.9 -8.64,-4.495 -8.39,-4.3 -8.39,-3.1 ; -9.39,3.1 -9.39,4.3 -9.14,4.495 -9.14,4.9 -8.64,4.9 -8.64,4.495 -8.39,4.3 -8.39,3.1 ; -6.85,-3.1 -6.85,-4.3 -6.6,-4.495 -6.6,-4.9 -6.1,-4.9 -6.1,-4.495 -5.85,-4.3 -5.85,-3.1 ; -6.85,3.1 -6.85,4.3 -6.6,4.495 -6.6,4.9 -6.1,4.9 -6.1,4.495 -5.85,4.3 -5.85,3.1 ; -4.31,-3.1 -4.31,-4.3 -4.06,-4.495 -4.06,-4.9 -3.56,-4.9 -3.56,-4.495 -3.31,-4.3 -3.31,-3.1 ; -4.31,3.1 -4.31,4.3 -4.06,4.495 -4.06,4.9 -3.56,4.9 -3.56,4.495 -3.31,4.3 -3.31,3.1 ; -1.77,-3.1 -1.77,-4.3 -1.52,-4.495 -1.52,-4.9 -1.02,-4.9 -1.02,-4.495 -0.77,-4.3 -0.77,-3.1 ; -1.77,3.1 -1.77,4.3 -1.52,4.495 -1.52,4.9 -1.02,4.9 -1.02,4.495 -0.77,4.3 -0.77,3.1 ; 0.77,-3.1 0.77,-4.3 1.02,-4.495 1.02,-4.9 1.52,-4.9 1.52,-4.495 1.77,-4.3 1.77,-3.1 ; 0.77,3.1 0.77,4.3 1.02,4.495 1.02,4.9 1.52,4.9 1.52,4.495 1.77,4.3 1.77,3.1 ; 3.31,-3.1 3.31,-4.3 3.56,-4.495 3.56,-4.9 4.06,-4.9 4.06,-4.495 4.31,-4.3 4.31,-3.1 ; 3.31,3.1 3.31,4.3 3.56,4.495 3.56,4.9 4.06,4.9 4.06,4.495 4.31,4.3 4.31,3.1 ; 5.85,-3.1 5.85,-4.3 6.1,-4.495 6.1,-4.9 6.6,-4.9 6.6,-4.495 6.85,-4.3 6.85,-3.1 ; 5.85,3.1 5.85,4.3 6.1,4.495 6.1,4.9 6.6,4.9 6.6,4.495 6.85,4.3 6.85,3.1 ; 8.39,-3.1 8.39,-4.3 8.64,-4.495 8.64,-4.9 9.14,-4.9 9.14,-4.495 9.39,-4.3 9.39,-3.1 ; 8.39,3.1 8.39,4.3 8.64,4.495 8.64,4.9 9.14,4.9 9.14,4.495 9.39,4.3 9.39,3.1 ; 10.93,-3.1 10.93,-4.3 11.18,-4.495 11.18,-4.9 11.68,-4.9 11.68,-4.495 11.93,-4.3 11.93,-3.1 ; 10.93,3.1 10.93,4.3 11.18,4.495 11.18,4.9 11.68,4.9 11.68,4.495 11.93,4.3 11.93,3.1 ; -13.17,-3.1 13.17,-3.1 13.17,3.1 -13.17,3.1 -13.17,-3.1
  text "ON" at -12.23,1.7 h0.89
Top Courtyard:
  lines w0.05: -13.37,-5.7 13.37,-5.7 13.37,5.7 -13.37,5.7 -13.37,-5.7
Top Component Center:
  lines w0.05: -0.5,0 0.5,0 ; 0,-0.5 0,0.5
Top Designator (Mech19):
  text ".Designator" at -7.498,-0.5 h1.5
3D body "418121270810.stp": height 4.41, standoff 0.01, extent -12.92,-4.85 12.92,4.85

## 418121270812 [mm] "2.54 mm small compact SMD with raised actuator, 12p"
height 4.1
pads (24):
  rect 1.1x2.2 smd: 1(-13.97,-4.4) 2(-11.43,-4.4) 3(-8.89,-4.4) 4(-6.35,-4.4) 5(-3.81,-4.4) 6(-1.27,-4.4) 7(1.27,-4.4) 8(3.81,-4.4) 9(6.35,-4.4) 10(8.89,-4.4) 11(11.43,-4.4) 12(13.97,-4.4) 13(13.97,4.4) 14(11.43,4.4) 15(8.89,4.4) 16(6.35,4.4) 17(3.81,4.4) 18(1.27,4.4) 19(-1.27,4.4) 20(-3.81,4.4) 21(-6.35,4.4) 22(-8.89,4.4) 23(-11.43,4.4) 24(-13.97,4.4)
Top Overlay:
  lines w0.2: -15.71,-2 -14.71,-3 ; -15.71,-3 -15.71,3 15.71,3 15.71,-3 -15.71,-3
  text "ON" at -14.77,1.7 h0.89
Top Component Outline:
  drawing of 173 lines, arcs and shapes, not listed
  text "ON" at -14.77,1.7 h0.89
Top Courtyard:
  lines w0.05: -15.91,-5.7 15.91,-5.7 15.91,5.7 -15.91,5.7 -15.91,-5.7
Top Component Center:
  lines w0.05: -0.5,0 0.5,0 ; 0,-0.5 0,0.5
Top Designator (Mech19):
  text ".Designator" at -7.498,-0.5 h1.5
3D body "418121270812.stp": height 4.41, standoff 0.01, extent -15.46,-4.85 15.46,4.85

## PCBComponent_1 [mm]
Top Component Center:
  lines w0.05: -0.5,0 0.5,0 ; 0,-0.5 0,0.5
Top Designator (Mech19):
  text ".Designator" at -7.498,-0.5 h1.5